# EAGLE library part M2732A (library Atari)
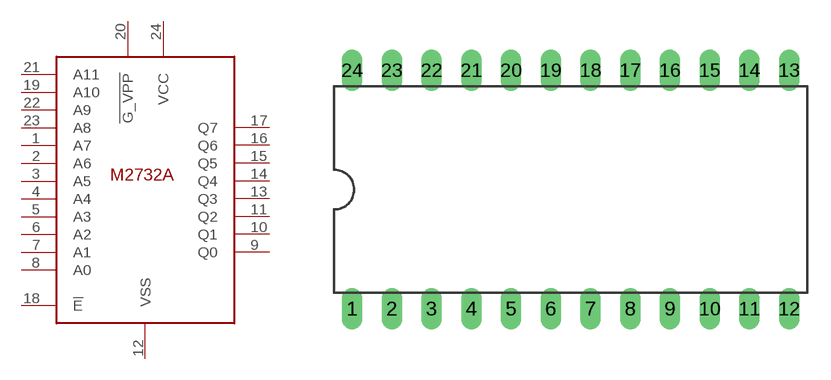
[diagram p2: symbol with the pads of DIL24-6; footprint DIL24-6]

Designator prefix -

## M2732A  [DIL24-6]
1  A7
2  A6
3  A5
4  A4
5  A3
6  A2
7  A1
8  A0
9  Q0
10  Q1
11  Q2
12  VSS
13  Q3
14  Q4
15  Q5
16  Q6
17  Q7
18  !E  oc
19  A10
20  !G_VPP
21  A11
22  A9
23  A8
24  VCC

## Footprint DIL24-6 (pad centres in mm)
Dual In Line Package 0.6 inch
drill 0.813 long: 1 -13.97,-7.62; 2 -11.43,-7.62; 3 -8.89,-7.62; 4 -6.35,-7.62; 5 -3.81,-7.62; 6 -1.27,-7.62; 7 1.27,-7.62; 8 3.81,-7.62; 9 6.35,-7.62; 10 8.89,-7.62; 11 11.43,-7.62; 12 13.97,-7.62; 13 13.97,7.62; 14 11.43,7.62; 15 8.89,7.62; 16 6.35,7.62; 17 3.81,7.62; 18 1.27,7.62; 19 -1.27,7.62; 20 -3.81,7.62; 21 -6.35,7.62; 22 -8.89,7.62; 23 -11.43,7.62; 24 -13.97,7.62